# Altium schematic symbol library Schlib1.SchLib: 1 symbol
Pins are listed as number, name and electrical type; pins without a type are passive.

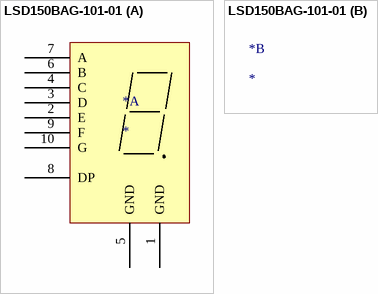
[diagram p0: symbol LSD150BAG-101-01]

## LSD150BAG-101-01
designator *
part A pins: 1 GND, 2 E, 3 D, 4 C, 5 GND, 6 B, 7 A, 8 DP, 9 F, 10 G